# Altium footprint library NEW.PcbLib: 110 footprints (part 3 of 7)
Each footprint in its own frame and in the unit in brackets; x right, y up, seen from the top. Pads: shape width x height; smd on the part's side, far side on the other; paste and mask are expansions set on the pad; w line width, h text height; cw(c..) or ccw(c..) is an arc to the next point about the centre after c.
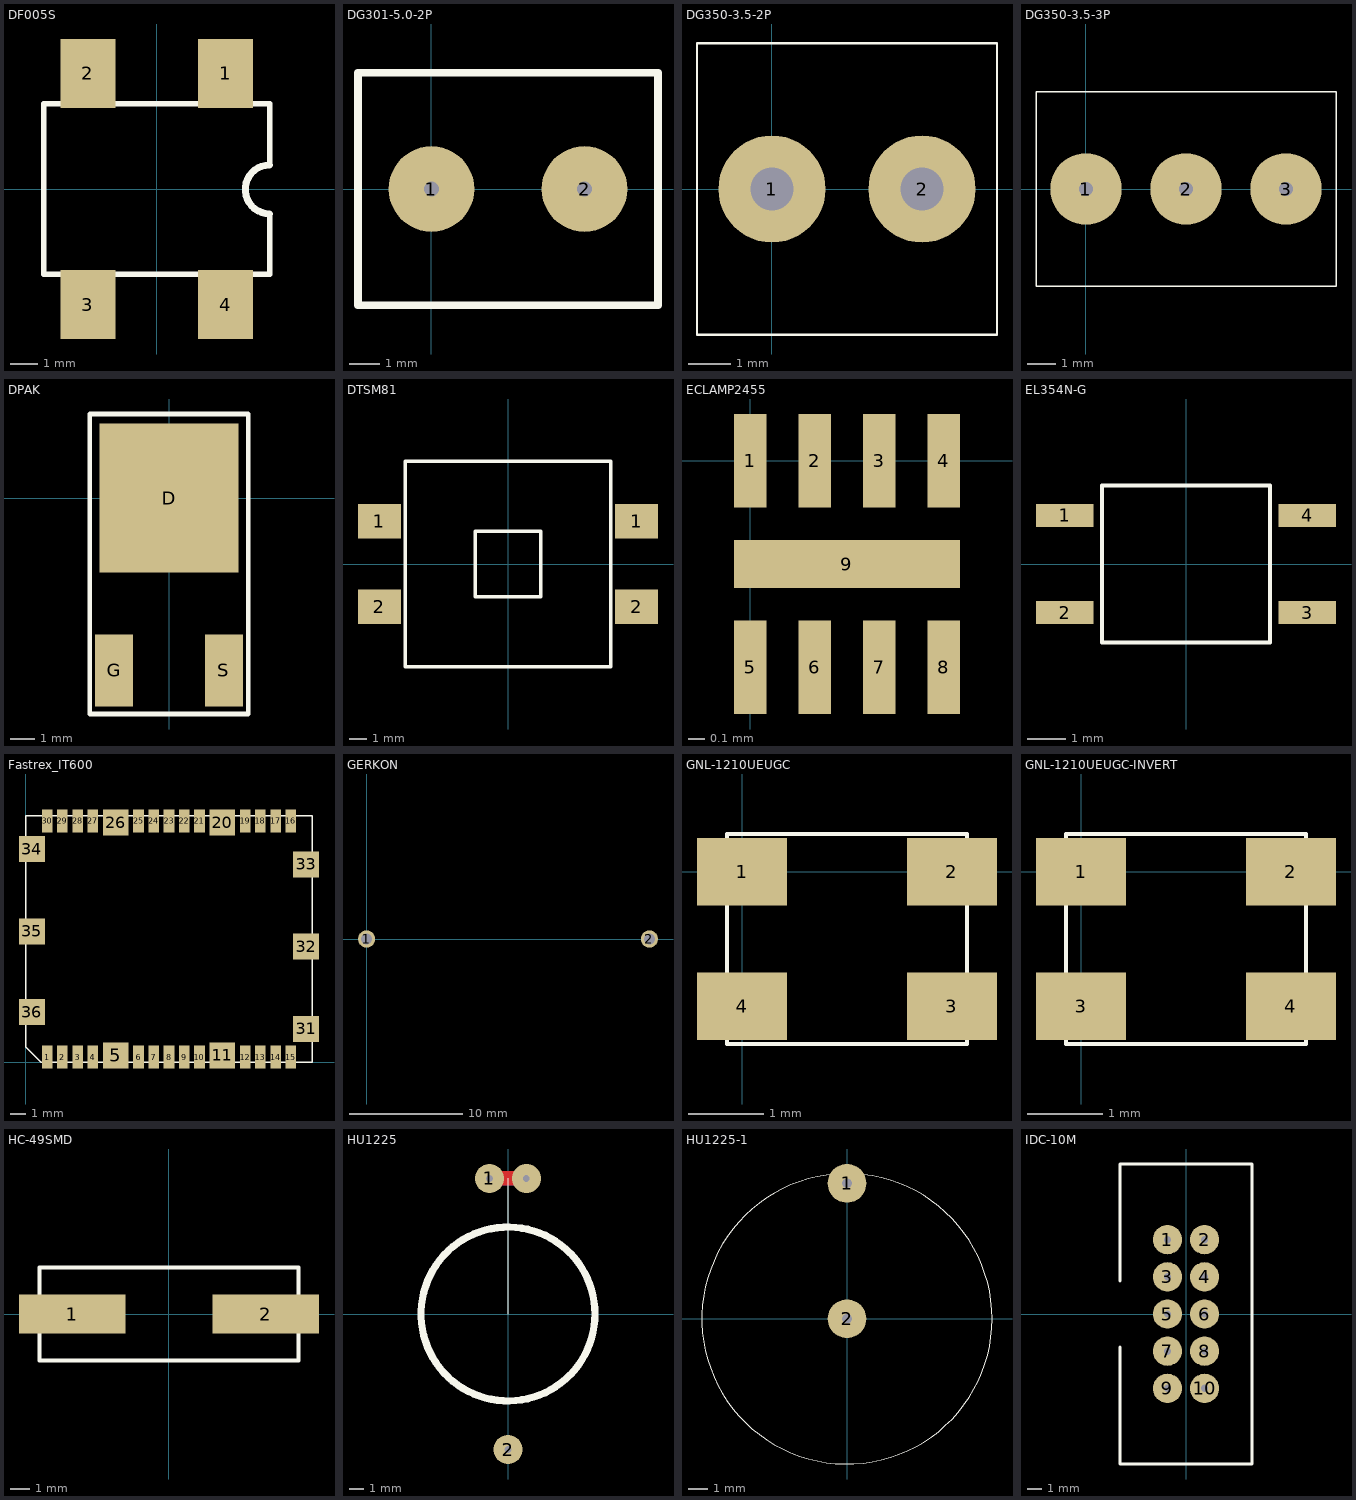
[diagram p2: the footprints below, top view; thin cyan lines are the x and y axes]

## DF005S [mm]
height 2.5
pads (4):
  rect 2x2.5 smd: 1(2.5,4.2) 2(-2.5,4.2) 3(-2.5,-4.2) 4(2.5,-4.2)
Top Overlay:
  lines w0.2: 4.1,-0.9 4.1,-3.1 -4.1,-3.1 -4.1,3.1 4.1,3.1 4.1,0.872
  lines w0.254: 4.1,-0.9 cw(c4.1,-0.014) 4.1,0.872

## DG301-5.0-2P [mm]
pads (2):
  round 2.8 hole 0.5: 1(0,0) 2(5,0)
Top Overlay:
  lines w0.254: -2.4,-3.8 -2.4,3.8 7.4,3.8 7.4,-3.8 -2.4,-3.8

## DG350-3.5-2P [mm]
pads (2):
  round 2.5 hole 1: 1(0,0) 2(3.5,0)
Top Overlay:
  lines w0.05: -1.75,-3.4 -1.75,3.4 5.25,3.4 5.25,-3.4 -1.75,-3.4

## DG350-3.5-3P [mm]
pads (3):
  round 2.5 hole 0.5: 1(0,0) 2(3.5,0) 3(7,0)
Top Overlay:
  lines w0.05: -1.75,-3.4 8.75,-3.4 8.75,3.4 -1.75,3.4 -1.75,-3.4

## DPAK [mm]
height 2.4
pads (3):
  rect 5.8x6.2 smd: D(0,0)
  rect 1.6x3 smd: G(-2.29,-7.18) S(2.29,-7.18)
Top Overlay:
  lines w0.2: -3.3,-9 3.3,-9 3.3,3.5 -3.3,3.5 -3.3,-9

## DTSM81 [mm]
height 7.3
pads (4):
  rect 2.5x2 smd: 1(-7.5,2.5) 1(7.5,2.5) 2(-7.5,-2.5) 2(7.5,-2.5)
Top Overlay:
  lines w0.2: -6,-6 6,-6 6,6 -6,6 -6,-6 ; -1.9,-1.9 1.9,-1.9 1.9,1.9 -1.9,1.9 -1.9,-1.9

## ECLAMP2455 [mm]
pads (9):
  rect 0.2x0.58 smd: 1(0,0) 2(0.4,0) 3(0.8,0) 4(1.2,0) 5(0,-1.28) 6(0.4,-1.28) 7(0.8,-1.28) 8(1.2,-1.28)
  rect 1.4x0.3 smd: 9(0.6,-0.64)

## EL354N-G [mm] "Optoisolator"
height 2
pads (4):
  rect 1.5x0.6 smd: 1(-3.175,1.27) 2(-3.175,-1.27) 3(3.175,-1.27) 4(3.175,1.27)
Top Overlay:
  lines w0.1: -2.2,-2.05 2.2,-2.05 2.2,2.05 -2.2,2.05 -2.2,-2.05

## Fastrex_IT600 [mm] "GPS/ГЛОНАСС"
height 2.3
pads (36):
  rect 0.7x1.5 smd: 1(1.4,0.35) 2(2.4,0.35) 3(3.4,0.35) 4(4.4,0.35) 6(7.4,0.35) 7(8.4,0.35) 8(9.4,0.35) 9(10.4,0.35) 10(11.4,0.35) 12(14.4,0.35) 13(15.4,0.35) 14(16.4,0.35) 15(17.4,0.35) 16(17.4,15.85) 17(16.4,15.85) 18(15.4,15.85) 19(14.4,15.85) 21(11.4,15.85) 22(10.4,15.85) 23(9.4,15.85) 24(8.4,15.85) 25(7.4,15.85) 27(4.4,15.85) 28(3.4,15.85) 29(2.4,15.85) 30(1.4,15.85)
  rect 1.7x1.7 smd: 5(5.9,0.45) 11(12.9,0.45) 20(12.9,15.75) 26(5.9,15.75) 31(18.4,2.2) 32(18.4,7.6) 33(18.4,13) 34(0.4,14) 35(0.4,8.6) 36(0.4,3.3)
Top Overlay:
  lines w0.1: 0,1 0,16.2 18.8,16.2 18.8,0 1,0 0,1

## GERKON [mil]
pads (2):
  round 60 hole 38: 1(0,0) 2(984.25,0)
Bottom Overlay:
  lines w10: 196.85,-78.74 826.77,-78.74 826.77,78.74 196.85,78.74 196.85,-78.74

## GNL-1210UEUGC [mm]
pads (4):
  rect 1.2x0.9 smd: 1(0,0) 2(2.8,0) 3(2.8,-1.8) 4(0,-1.8)
Top Overlay:
  lines w0.05: -0.2,-2.3 3,-2.3 3,0.5 -0.2,0.5 -0.2,-2.3

## GNL-1210UEUGC-INVERT [mm]
pads (4):
  rect 1.2x0.9 smd: 1(0,0) 2(2.8,0) 3(0,-1.8) 4(2.8,-1.8)
Top Overlay:
  lines w0.05: -0.2,-2.3 3,-2.3 3,0.5 -0.2,0.5 -0.2,-2.3

## HC-49SMD [mm]
height 4
pads (2):
  rect 5.5x2 smd: 1(-5,0) 2(5,0)
Top Overlay:
  lines w0.2: -6.7,-2.4 6.7,-2.4 6.7,2.4 -6.7,2.4 -6.7,-2.4
3D body: height 4, standoff 0, extent -6.699,-2.399 6.699,2.399
3D body: height 3, standoff 0, extent -6.699,-2.399 6.699,2.399

## HU1225 [mm]
pads (2):
  round 2 hole 0.5: 1(-1.28,9.35) 2(0,-9.35)
via 1.27,9.35 diameter 2 hole 0.457
Top Layer:
  lines w1: -0.53,9.35 0.52,9.35
Bottom Layer:
  lines w1: -0.58,9.35 0.52,9.35
Top Overlay:
  circle w0.5: c0,0 r6
  lines w0.05: 0,0 0,9.35

## HU1225-1 [mm]
pads (2):
  round 2 hole 0.5: 1(0,7) 2(0,0)
Top Overlay:
  circle w0.05: c0,0 r7.5

## IDC-10M [mm]
height 9
pads (10):
  round 2 hole 0.5 unplated: 1(-1.27,5.08) 2(1.27,5.08) 3(-1.27,2.54) 4(1.27,2.54) 5(-1.27,0) 6(1.27,0) 7(-1.27,-2.54) 8(1.27,-2.54) 9(-1.27,-5.08) 10(1.27,-5.08)
Top Overlay:
  lines w0.2: -4.5,-2.25 -4.5,-10.25 4.5,-10.25 4.5,10.25 -4.5,10.25 -4.5,2.25